# Altium schematic symbol library U_BQ20Z45R1.SchLib: 1 symbol
Pins are listed as number, name and electrical type; pins without a type are passive.

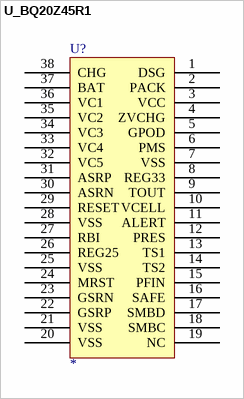
[diagram p0: symbol U_BQ20Z45R1]

## U_BQ20Z45R1
designator U?
pins: 1 DSG, 2 PACK, 3 VCC, 4 ZVCHG, 5 GPOD, 6 PMS, 7 VSS, 8 REG33, 9 TOUT, 10 VCELL, 11 ALERT, 12 PRES, 13 TS1, 14 TS2, 15 PFIN, 16 SAFE, 17 SMBD, 18 SMBC, 19 NC, 20 VSS, 21 VSS, 22 GSRP, 23 GSRN, 24 MRST, 25 VSS, 26 REG25, 27 RBI, 28 VSS, 29 RESET, 30 ASRN, 31 ASRP, 32 VC5, 33 VC4, 34 VC3, 35 VC2, 36 VC1, 37 BAT, 38 CHG